# EAGLE library part STM8F (library ST-MCU)
stm8s300 series is Core • 16 MHz advanced STM8 core with Harvard architecture and 3-stage pipeline • Extended instruction set Memories • Program memory: 8 Kbyte Flash memory; data retention 20 years at 55 °C after 100 cycles • RAM: 1 Kbyte • Data memory: 128 bytes true data EEPROM; endurance up to 100 k write/erase cycles Clock, reset and supply management • 2.95 V to 5.5 operating voltage • Flexible clock control, 4 master clock sources – Low-power crystal resonator oscillator – External clock input – Internal, user-trimmable 16 MHz RC – Internal low-power 128 kHz RC • Clock security system with clock monitor • Power management – Low-power modes (wait, active-halt, halt) – Switch-off peripheral clocks individually – Permanently active, low-consumption power-on and power-down reset Interrupt management • Nested interrupt controller with 32 interrupts • Up to 27 external interrupts on 6 vectors
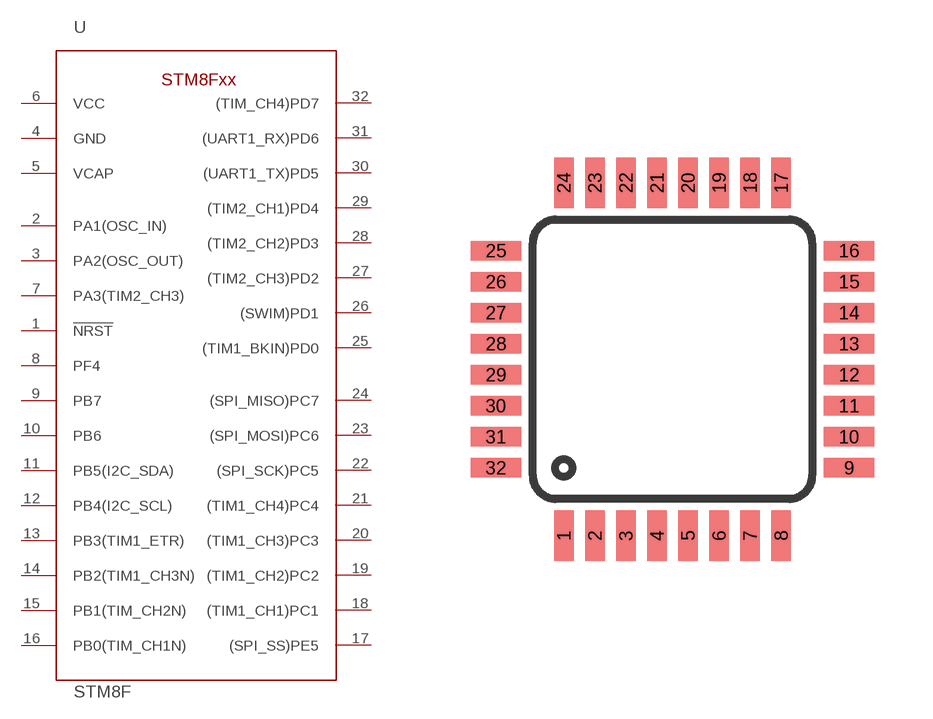
[diagram p1: symbol with the pads of LQFP32; footprint LQFP32]

Designator prefix U

## STM8FS003K3T6  [LQFP32]
1  !NRST!
2  PA1(OSC_IN)
3  PA2(OSC_OUT)
4  GND  pwr
5  VCAP  sup
6  VCC  pwr
7  PA3(TIM2_CH3)
8  PF4
9  PB7
10  PB6
11  PB5(I2C_SDA)
12  PB4(I2C_SCL)
13  PB3(TIM1_ETR)
14  PB2(TIM1_CH3N)
15  PB1(TIM_CH2N)
16  PB0(TIM_CH1N)
17  (SPI_SS)PE5
18  (TIM1_CH1)PC1
19  (TIM1_CH2)PC2
20  (TIM1_CH3)PC3
21  (TIM1_CH4)PC4
22  (SPI_SCK)PC5
23  (SPI_MOSI)PC6
24  (SPI_MISO)PC7
25  (TIM1_BKIN)PD0
26  (SWIM)PD1
27  (TIM2_CH3)PD2
28  (TIM2_CH2)PD3
29  (TIM2_CH1)PD4
30  (UART1_TX)PD5
31  (UART1_RX)PD6
32  (TIM_CH4)PD7

## Footprint LQFP32 (pad centres in mm)
smd 0.5 x 1.3: 1 -2.8,-4.55; 2 -2,-4.55; 3 -1.2,-4.55; 4 -0.4,-4.55; 5 0.4,-4.55; 6 1.2,-4.55; 7 2,-4.55; 8 2.8,-4.55; 17 2.8,4.55; 18 2,4.55; 19 1.2,4.55; 20 0.4,4.55; 21 -0.4,4.55; 22 -1.2,4.55; 23 -2,4.55; 24 -2.8,4.55
smd 1.3 x 0.5: 9 4.55,-2.8; 10 4.55,-2; 11 4.55,-1.2; 12 4.55,-0.4; 13 4.55,0.4; 14 4.55,1.2; 15 4.55,2; 16 4.55,2.8; 25 -4.55,2.8; 26 -4.55,2; 27 -4.55,1.2; 28 -4.55,0.4; 29 -4.55,-0.4; 30 -4.55,-1.2; 31 -4.55,-2; 32 -4.55,-2.8